# Altium footprint library 2020-07-18_02-21-09.PcbLib: 1 footprints
Each footprint in its own frame and in the unit in brackets; x right, y up, seen from the top. Pads: shape width x height; smd on the part's side, far side on the other; paste and mask are expansions set on the pad; w line width, h text height; cw(c..) or ccw(c..) is an arc to the next point about the centre after c.
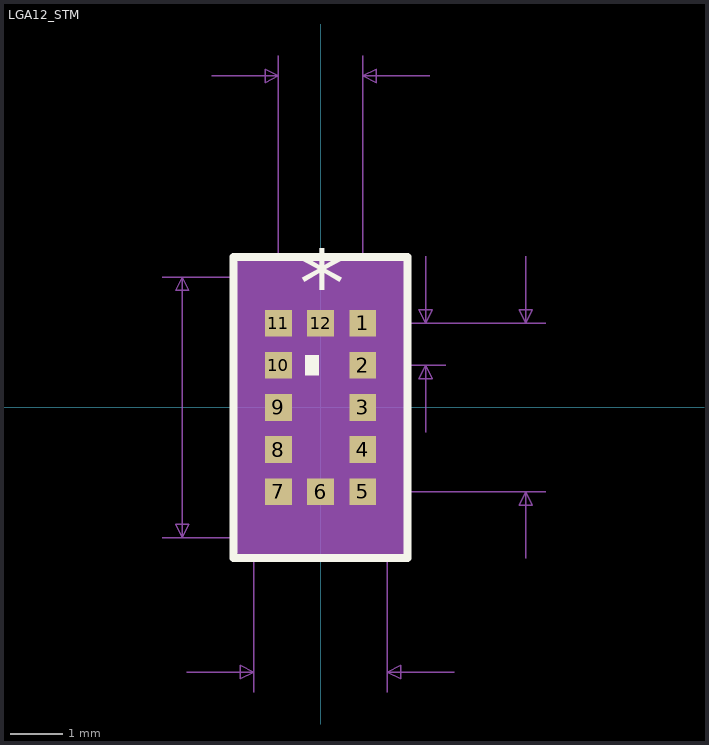
[diagram p0: the footprint, top view; thin cyan lines are the x and y axes]

## LGA12_STM [mil]
pads (12):
  rect 20x20 smd paste-10 mask+0: 1(31.5,62.99) 2(31.5,31.5) 3(31.5,0) 4(31.5,-31.5) 5(31.5,-62.99) 6(0,-62.99) 7(-31.5,-62.99) 8(-31.5,-31.5) 9(-31.5,0) 10(-31.5,31.5) 11(-31.5,62.99) 12(0,62.99)
Top Overlay:
  region: -11.49,39 -1.5,39 -1.5,24 -11.49,24
  lines w6: -65,-112.5 65,-112.5 65,112.5 -65,112.5 -65,-112.5
  text "*" at -16,68.74 h50
Mechanical 5:
  region: 3.5,-97.99 -3.5,-97.99 -3.5,97.99 3.5,97.99
Mechanical 7:
  lines w1: -118.5,-97.5 50,-97.5 ; -118.5,97.5 50,97.5 50,-212.99 ; -100,-197.99 -50,-197.99 ; -81.5,247.99 -31.5,247.99 ; -50,-212.99 -50,97.5 ; -31.5,31.5 93.5,31.5 ; -31.5,262.99 -31.5,62.99 93.5,62.99 ; 0,-62.99 168.5,-62.99 ; 0,62.99 168.5,62.99 ; 31.5,62.99 31.5,262.99 ; 78.5,-18.5 78.5,31.5 ; 78.5,112.99 78.5,62.99 ; 81.5,247.99 31.5,247.99 ; 100,-197.99 50,-197.99 ; 153.5,-112.99 153.5,-62.99 ; 153.5,112.99 153.5,62.99 ; -103.5,-97.5 -103.5,97.5 ; -103.5,-97.5 -108.5,-87.5 -98.5,-87.5 -103.5,-97.5 ; -103.5,97.5 -108.5,87.5 -98.5,87.5 -103.5,97.5 ; -50,-197.99 -60,-192.99 -60,-202.99 -50,-197.99 ; -31.5,247.99 -41.49,252.99 -41.49,242.99 -31.5,247.99 ; 31.5,247.99 41.49,252.99 41.49,242.99 31.5,247.99 ; 50,-197.99 60,-192.99 60,-202.99 50,-197.99 ; 78.5,31.5 73.5,21.5 83.5,21.5 78.5,31.5 ; 78.5,62.99 73.5,72.99 83.5,72.99 78.5,62.99 ; 153.5,-62.99 148.5,-72.99 158.5,-72.99 153.5,-62.99 ; 153.5,62.99 148.5,72.99 158.5,72.99 153.5,62.99
  text "Default Padstyle: RX20Y20D0T" at -350,-322.99 h50
  text "Alt 1 Padstyle: OX60Y90D30P" at -337.5,-502.99 h50
  text "Alt 2 Padstyle: OX90Y60D30P" at -337.5,-562.99 h50
  text "0.031in/0.8mm" at 98.5,34.74 h25
  text "-0.063in/-1.6mm" at -93.75,267.99 h25
  text "0.126in/3.2mm" at 173.5,-12.5 h25
  text "0.195in/4.953mm" at -311,-12.5 h25
  text "0.1in/2.54mm" at -75,-242.99 h25
Mechanical 13:
  lines w1: -50,47.5 0,97.5 ; -50,-97.5 50,-97.5 50,97.5 -50,97.5 -50,-97.5
  text "*" at 38.99,53.74 h50
Mechanical 15:
  region: -20,-107.5 -60,-107.5 -60,-82.99 -60,82.99 -60,107.5 -20,107.5 20,107.5 60,107.5 60,82.99 60,-82.99 60,-107.5 20,-107.5
  lines w6: -60,-82.99 -60,-107.5 -20,-107.5 ; -60,-82.99 -60,-82.99 ; -60,-82.99 -60,82.99 ; -60,82.99 -60,82.99 ; -60,82.99 -60,107.5 -20,107.5 ; -20,-107.5 20,-107.5 ; -20,-107.5 -20,-107.5 ; -20,107.5 -20,107.5 ; -20,107.5 20,107.5 ; 20,-107.5 60,-107.5 60,-82.99 ; 20,-107.5 20,-107.5 ; 20,107.5 20,107.5 ; 20,107.5 60,107.5 60,82.99 ; 60,-82.99 60,82.99 ; 60,-82.99 60,-82.99 ; 60,82.99 60,82.99
3D body: height 10, standoff 0, extent 0,0 10,10